# Altium integrated library CRCW0402100RFKTD.IntLib: 1 symbol
Pins are listed as number, name and electrical type; pins without a type are passive.

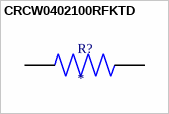
[diagram p0: symbol CRCW0402100RFKTD]

## CRCW0402100RFKTD
designator R?
Res Thick Film 0402 100 Ohm 1% 1/16W Â±100ppm/Â°C Molded SMD SMD Paper T/R; MP: CRCW0402100RFKTD; Package: None; Price: None; Value: *; Availability: Unavailable
footprint RESC1005X40N
pins: 1, 2